# Altium footprint library QFN50P300X300X80-13N-D.PcbLib: 1 footprints
Each footprint in its own frame and in the unit in brackets; x right, y up, seen from the top. Pads: shape width x height; smd on the part's side, far side on the other; paste and mask are expansions set on the pad; w line width, h text height; cw(c..) or ccw(c..) is an arc to the next point about the centre after c.
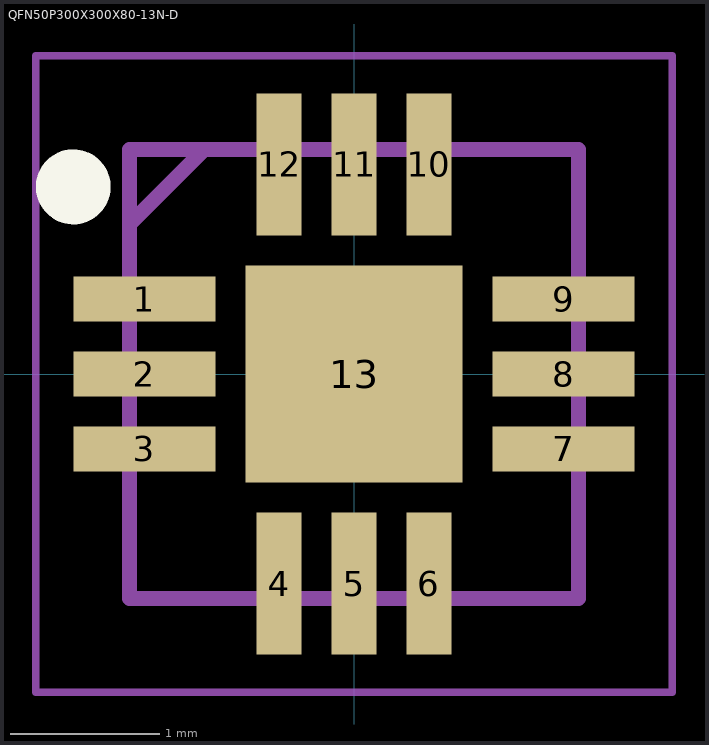
[diagram p0: the footprint, top view; thin cyan lines are the x and y axes]

## QFN50P300X300X80-13N-D [mm]
pads (13):
  rect 0.95x0.3 smd: 1(-1.4,0.5) 2(-1.4,0) 3(-1.4,-0.5) 7(1.4,-0.5) 8(1.4,0) 9(1.4,0.5)
  rect 0.3x0.95 smd: 4(-0.5,-1.4) 5(0,-1.4) 6(0.5,-1.4) 10(0.5,1.4) 11(0,1.4) 12(-0.5,1.4)
  rect 1.45x1.45 smd: 13(0,0)
Top Overlay:
  circle w0.25: c-1.875,1.25 r0.125
Mechanical 15:
  lines w0.1: -1.5,1 -1,1.5 ; -1.5,-1.5 1.5,-1.5 1.5,1.5 -1.5,1.5 -1.5,-1.5
Mechanical 20:
  lines w0.05: -2.125,-2.125 2.125,-2.125 2.125,2.125 -2.125,2.125 -2.125,-2.125